# Altium schematic symbol library Magnetics.SchLib: 2 symbols
Pins are listed as number, name and electrical type; pins without a type are passive.

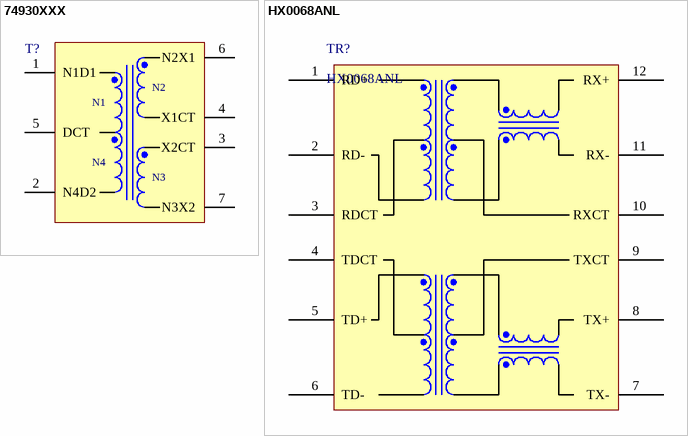
[diagram p0: symbols 74930XXX to HX0068ANL]

## 74930XXX
designator T?
WE-STST SMT Super Tiny Signal Transformer, size 4532, 1:1, 350uH; Manufacturer: Wurth Elektronik; Manufacturer Part Number: 74930000; Insulation Test Voltage: 1500Vrms; Data Rate: 10/100/1GBase-T, 10/100Base-T1; ComponentLink1Description: Manufacturer; ComponentLink1URL: http://www.we-online.de; ComponentLink2Description: Datasheet; ComponentLink2URL: https://www.we-online.com/catalog/datasheet/74930000.pdf; Packaging: Tape and Reel; Published Date: January 2021; Operating Temperature: -40 to +105degC; Mounting Technology: SMT; Inductance: 350uH; Turns Ratio: 1:1; Size: 4532; Applications: Ethernet, Single Pair Ethernet
footprint 74930000 (Super Tiny Signal Transformer, body 4.7x3.22mm)
footprint 74930000_for PoDL and 10Base-T1 (Super Tiny Signal Transformer, body 4.7x3.22mm)
footprint 74930030 (Super Tiny Signal Transformer, body 4.7x3.22mm)
footprint 74930100 (Super Tiny Signal Transformer, body 4.7x3.22mm)
footprint 74930100_for PoDL and 10Base-T1 (Super Tiny Signal Transformer, body 4.7x3.22mm)
footprint 74930120 (Super Tiny Signal Transformer, body 4.7x3.22mm)
footprint 74930130 (Super Tiny Signal Transformer, body 4.7x3.22mm)
footprint 749302010 (Super Tiny Signal Transformer, body 4.7x3.22mm)
footprint 749302011 (Super Tiny Signal Transformer, body 4.7x3.22mm)
pins: 1 N1D1, 2 N4D2, 3 X2CT, 4 X1CT, 5 DCT, 6 N2X1, 7 N3X2
text: N2; N1; N4; N3

## HX0068ANL
designator TR?
Ethernet Transformer MDL,SIN,100D,1:1,SMT,TU, NPB; Full Part Number: HX0068ANL
footprint HX0068ANL
pins: 1 RD+, 2 RD-, 3 RDCT, 4 TDCT, 5 TD+, 6 TD-, 7 TX-, 8 TX+, 9 TXCT, 10 RXCT, 11 RX-, 12 RX+